# Altium schematic symbol library ARC_FULL.SchLib: 1 symbol
Pins are listed as number, name and electrical type; pins without a type are passive.

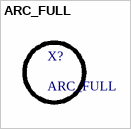
[diagram p0: symbol ARC_FULL]

## ARC_FULL
designator X?
Full arc (circle) test